# EAGLE library part CKCX4 (library KwanSystems)
Array of four capacitors
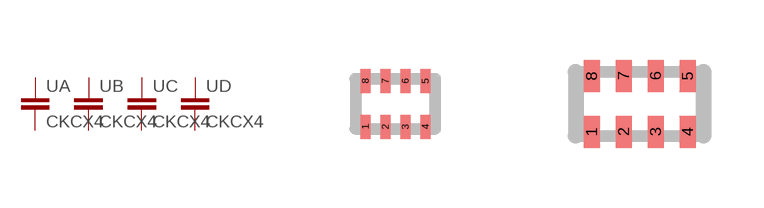
[diagram p49: symbol with the pads of CKCL44; footprints CKCL44, CKCA43_MIN]

Designator prefix -; gates A=CAP B=CAP C=CAP D=CAP

## CKCX4L  [CKCL44]
1  A:1  pas
2  B:1  pas
3  C:1  pas
4  D:1  pas
5  D:2  pas
6  C:2  pas
7  B:2  pas
8  A:2  pas

## CKCX4A_MIN  [CKCA43_MIN]
Pads as for CKCL44

## CKCX4A_MAX  [CKC43A_MAX]
Pads as for CKCL44

## Footprint CKCL44 (pad centres in mm)
smd 0.25 x 0.6: 1 -0.75,-0.575; 2 -0.25,-0.575; 3 0.25,-0.575; 4 0.75,-0.575; 5 0.75,0.575; 6 0.25,0.575; 7 -0.25,0.575; 8 -0.75,0.575

## Footprint CKCA43_MIN (pad centres in mm)
smd 0.4 x 0.8: 1 -1.2,-0.7; 2 -0.4,-0.7; 3 0.4,-0.7; 4 1.2,-0.7; 5 1.2,0.7; 6 0.4,0.7; 7 -0.4,0.7; 8 -1.2,0.7

## Footprint CKC43A_MAX (pad centres in mm)
smd 0.4 x 1: 1 -1.2,-0.85; 2 -0.4,-0.85; 3 0.4,-0.85; 4 1.2,-0.85; 5 1.2,0.85; 6 0.4,0.85; 7 -0.4,0.85; 8 -1.2,0.85